# Altium footprint library SSR.PcbLib: 2 footprints
Each footprint in its own frame and in the unit in brackets; x right, y up, seen from the top. Pads: shape width x height; smd on the part's side, far side on the other; paste and mask are expansions set on the pad; w line width, h text height; cw(c..) or ccw(c..) is an arc to the next point about the centre after c.
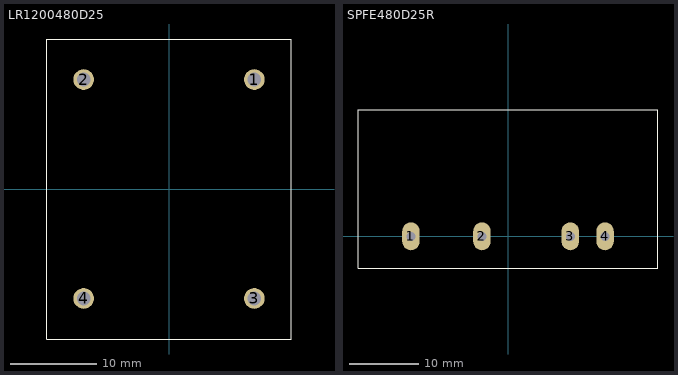
[diagram p0: the footprints below, top view; thin cyan lines are the x and y axes]

## LR1200480D25 [mm]
pads (4):
  round 2.4 hole 1.6 mask+0.05: 1(9.9,12.7) 2(-9.9,12.7) 3(9.9,-12.7) 4(-9.9,-12.7)
Top Overlay:
  lines w0.127: -14.2,-17.4 14.2,-17.4 14.2,17.4 -14.2,17.4 -14.2,-17.4
3D body "100801.step": height 9.53, standoff -2.84, extent -14.224,-17.399 14.224,17.399

## SPFE480D25R [mm]
pads (4):
  oval 2.5x4 hole 1.3 mask+0.05: 1(-13.95,0) 2(-3.75,0) 3(8.95,0) 4(13.95,0)
Top Overlay:
  lines w0.127: -21.55,-4.6 21.55,-4.6 21.55,18.2 -21.55,18.2 -21.55,-4.6
3D body "101401.step": height 38.23, standoff -6.22, extent -21.066,-3.784 20.59,17.933